# Altium schematic symbol library TCA6408APWR.Schlib: 1 symbol
Pins are listed as number, name and electrical type; pins without a type are passive.

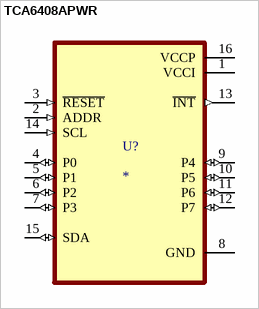
[diagram p0: symbol TCA6408APWR]

## TCA6408APWR
designator U?
8 I2C, SMBus POR 400kHz TSSOP-16 Interface - I/O Expanders RoHS; MF: {'manufacturer': u'Texas Instruments'}; MP: TCA6408APWR; Value: *; Price: None; Availability: Unavailable; Package: None; ComponentLink1Description: LCSC - Texas Instruments TCA6408APWR; ComponentLink1URL: https://lcsc.com/product-detail/I-O-Expansion_TI_TCA6408APWR_TCA6408APWR_C206177.html/?href=jlc-SMT; LCSC Part #: C206177; JLCPCB Part Type: Extended
footprint SOP65P640X120-16N
pins: 1 VCCI (power), 2 ADDR (in), 3 ~{RESET} (in), 4 P0 (io), 5 P1 (io), 6 P2 (io), 7 P3 (io), 8 GND (power), 9 P4 (io), 10 P5 (io), 11 P6 (io), 12 P7 (io), 13 ~{INT} (out), 14 SCL (in), 15 SDA (io), 16 VCCP (power)